# Altium footprint library _TE_966140-5.PcbLib: 1 footprints
Each footprint in its own frame and in the unit in brackets; x right, y up, seen from the top. Pads: shape width x height; smd on the part's side, far side on the other; paste and mask are expansions set on the pad; w line width, h text height; cw(c..) or ccw(c..) is an arc to the next point about the centre after c.
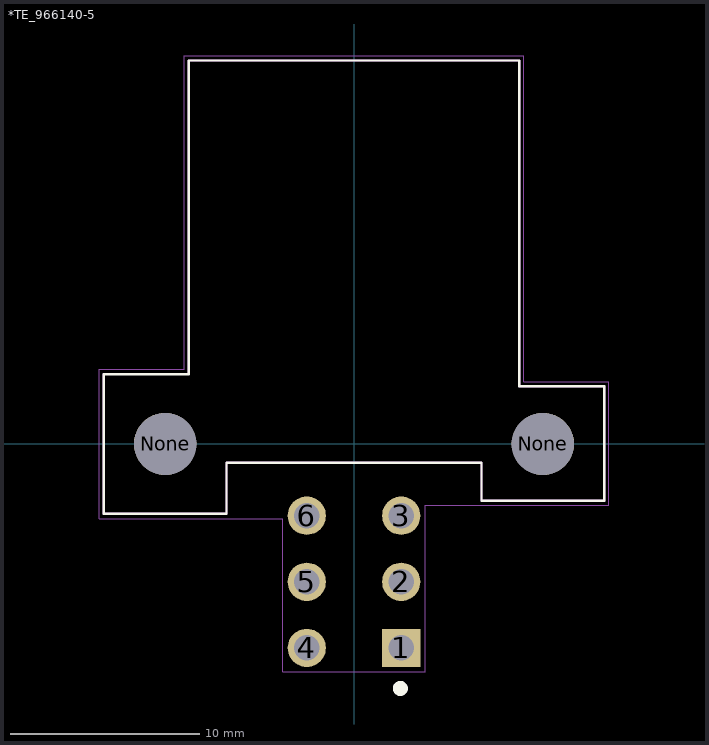
[diagram p0: the footprint, top view; thin cyan lines are the x and y axes]

## *TE_966140-5 [mm]
pads (8):
  rect 2.025x2.025 hole 1.35: 1(2.5,-10.8)
  round 2.025 hole 1.35: 2(2.5,-7.3) 3(2.5,-3.8) 4(-2.5,-10.8) 5(-2.5,-7.3) 6(-2.5,-3.8)
  round 3.3 hole 3.3 unplated: None(-10,0) None(10,0)
Top Overlay:
  circle w0.4: c2.453,-12.944 r0.2
  lines w0.127: -13.25,-3.7 -6.75,-3.7 -6.75,-1 6.75,-1 6.75,-3 13.25,-3 13.25,3.051 8.75,3.051 8.75,20.3 -8.75,20.3 -8.75,3.7 -13.25,3.7 -13.25,-3.7
Mechanical 13:
  lines w0.127: -13.25,-3.7 -6.75,-3.7 ; -13.25,-3.7 -13.25,3.702 ; -13.25,-3.7 -6.75,-3.7 ; -13.25,-3.7 -13.25,3.702 ; -13.25,3.702 -8.75,3.702 ; -13.25,3.702 -8.75,3.702 ; -8.75,3.702 -8.75,20.3 ; -8.75,3.702 -8.75,20.3 ; -8.75,20.3 8.75,20.3 ; -8.75,20.3 8.75,20.3 ; -6.75,-3.7 -6.75,-1 ; -6.75,-3.7 -6.75,-1 ; -6.75,-1 6.75,-1 ; -6.75,-1 6.75,-1 ; 6.75,-3 13.25,-3 ; 6.75,-3 6.75,-1 ; 6.75,-3 13.25,-3 ; 6.75,-3 6.75,-1 ; 8.75,3.05 13.25,3.05 ; 8.75,3.05 8.75,20.3 ; 8.75,3.05 13.25,3.05 ; 8.75,3.05 8.75,20.3 ; 13.25,-3 13.25,3.05 ; 13.25,-3 13.25,3.05
Mechanical 15:
  lines w0.05: -13.5,-3.95 -13.5,3.95 -9,3.95 -9,20.55 9,20.55 9,3.3 13.5,3.3 13.5,-3.25 3.76,-3.25 3.76,-12.06 -3.76,-12.06 -3.76,-3.95 -13.5,-3.95
3D body "c-966140-5-f-3d.stp": height 25.75, standoff -2.95, extent -12.9,-11.2 12.95,19.7